# EAGLE library part TL082 (library TL082)
IC OP AMP WIDEBAND JFET
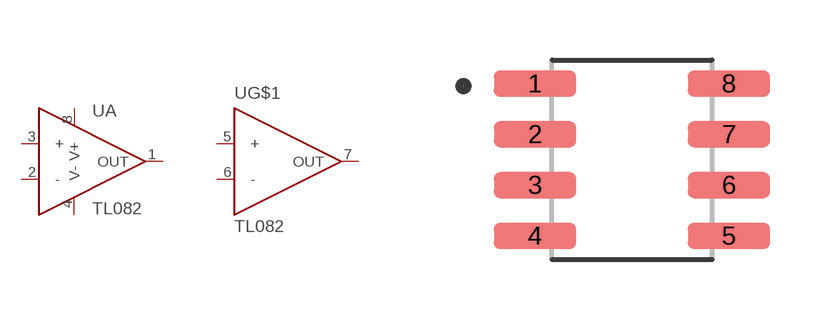
[diagram p0: symbol with the pads of SOIC127P600X175-8N; footprint SOIC127P600X175-8N]

Designator prefix U; gates A=TL082_SECTION1 G$1=TL082_SECTION2

## TL082 (Availability: Unavailable; Description: J-FET Amplifier 2 Circuit 8-SOIC; MF: STMicroelectronics; MP: TL082; Package: SOIC-8 STMicroelectronics; Price: None)  [SOIC127P600X175-8N]
1  A:OUT  out
2  A:-  in
3  A:+  in
4  A:V-  pwr
5  G$1:+  in
6  G$1:-  in
7  G$1:OUT  out
8  A:V+  pwr

## Footprint SOIC127P600X175-8N (pad centres in mm)
smd 2.07 x 0.66: 1 -2.425,1.905; 2 -2.425,0.635; 3 -2.425,-0.635; 4 -2.425,-1.905; 5 2.425,-1.905; 6 2.425,-0.635; 7 2.425,0.635; 8 2.425,1.905